# Altium integrated library MURATA_GRM3195C2A104GA01D.IntLib: 1 symbol
Pins are listed as number, name and electrical type; pins without a type are passive.

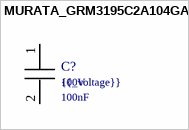
[diagram p0: symbol MURATA_GRM3195C2A104GA01D]

## MURATA_GRM3195C2A104GA01D
designator C?  (value not drawn)
/ Multilayer Ceramic Capacitors MLCC - SMD/SMT 1206 100VDC 0.10uF 0.02 /; MF: Murata; MP: GRM3195C2A104GA01D; SnapEDA_Link: https://www.snapeda.com/parts/GRM3195C2A104GA01D/Murata/view-part/?ref=snap; Package: 3216 Murata; Check_prices: https://www.snapeda.com/parts/GRM3195C2A104GA01D/Murata/view-part/?ref=eda; Value: *
footprint *MURATA_GRM3195C2A104GA01D_0
pins: 1, 2
text: 100V; {{_voltage}}; 100nF